# Altium schematic symbol library E2S_E2S_031.SchLib: 2 symbols
Pins are listed as number, name and electrical type; pins without a type are passive.

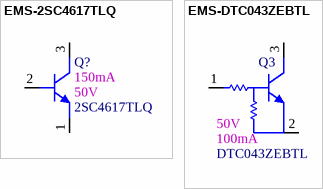
[diagram p0: symbols EMS-2SC4617TLQ to EMS-DTC043ZEBTL]

## EMS-2SC4617TLQ
designator Q?, comment value 2SC4617TLQ  2nd Auxiliary Field: 150mA  1st Auxiliary Field: 50V  (hidden comment: TRANS NPN 50V 0.15A SOT-416)
Manufacturer: Rohm Semiconductor; Vendor Part Number: 2SC4617TLQCT-ND; Internal Part Number: EMS-2SC4617TLQ; Vendor Name: Digi-Key; 3rd Auxiliary Field: ROHS3 Compliant; Component Height (mm): 0.55mm; Temp Co: 150°C (TJ); Part Type: TRANS NPN 50V 0.15A SOT-416; Manufacturer Part Number: 2SC4617TLQ; 4th Auxiliary Field: *
footprint SOT50P160X80-3N (SOT23, 3-Leads, Body 1.60x1.60mm, Pitch 0.50mm, IPC Medium Density)
pins: 1 E, 2 B, 3 C

## EMS-DTC043ZEBTL
designator Q3, comment value DTC043ZEBTL  2nd Auxiliary Field: 100mA  1st Auxiliary Field: 50V  (hidden comment: TRANS PREBIAS NPN 50V EMT3F)
Manufacturer: Rohm Semiconductor; Vendor Part Number: DTC043ZEBTLCT-ND; Internal Part Number: EMS-DTC043ZEBTL; Vendor Name: Digi-Key; 3rd Auxiliary Field: ROHS3 Compliant; Component Height (mm): 0.55mm; Temp Co: -55°C ~ 125°C; Part Type: TRANS PREBIAS NPN 50V EMT3F; Manufacturer Part Number: DTC043ZEBTL
footprint SOTFL50P140X85-3N (SOTFL, 3-Leads, Body 1.60x1.40mm, Pitch 0.50mm, IPC Medium Density)
pins: 1 B, 2 E, 3 C